# Altium footprint library LED3mm_GRN - duplicate.PcbLib: 1 footprints
Each footprint in its own frame and in the unit in brackets; x right, y up, seen from the top. Pads: shape width x height; smd on the part's side, far side on the other; paste and mask are expansions set on the pad; w line width, h text height; cw(c..) or ccw(c..) is an arc to the next point about the centre after c.
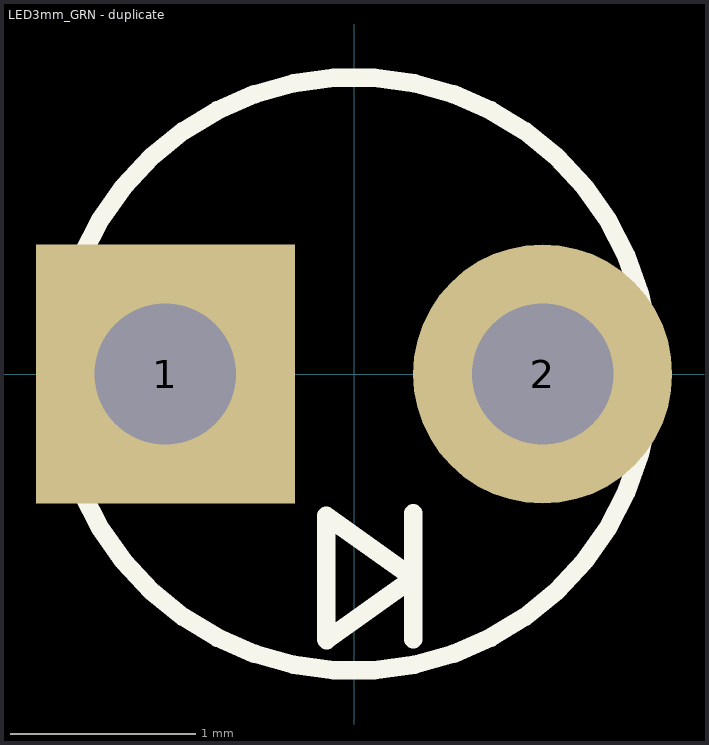
[diagram p0: the footprint, top view; thin cyan lines are the x and y axes]

## LED3mm_GRN - duplicate [mil]
height 157.48
pads (2):
  rect 55x55 hole 30: 1(-40,0)
  round 55 hole 30: 2(40,0)
Top Overlay:
  circle w3.94: c0,0 r62.99
  lines w3.94: -5.91,-56.3 -5.91,-30.09 12.6,-43.31 -5.8,-56.45 ; 12.6,-56.3 12.6,-29.53
3D body "LED.STEP": height 153.55, standoff -59.05, extent -68.9,-69 68.9,68.8